# EAGLE library part DRV8353S (library controller)
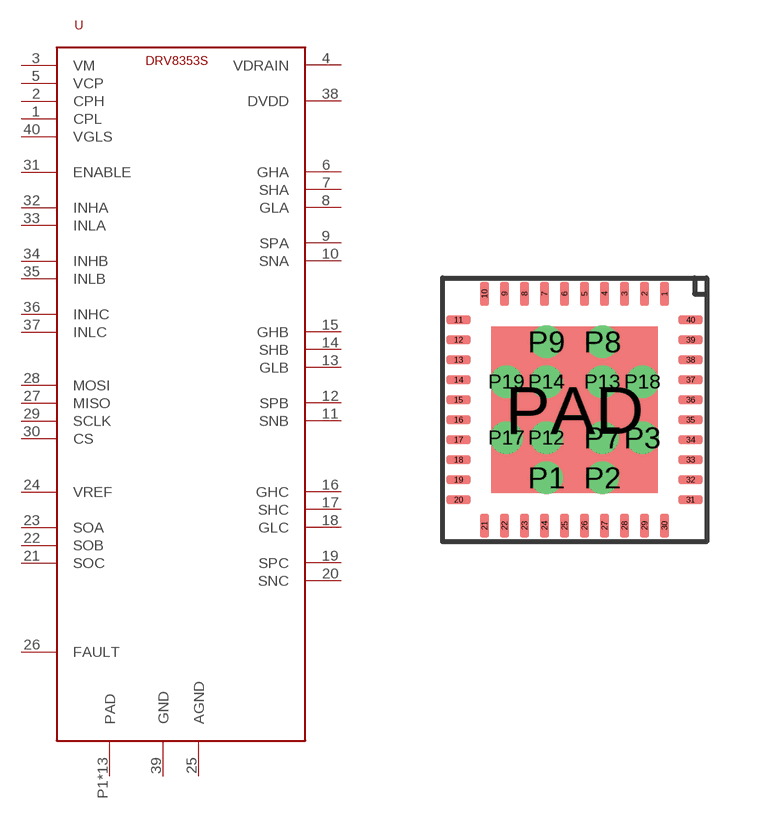
[diagram p12: symbol with the pads of WQFN-40; footprint WQFN-40]

Designator prefix -

## DRV8353S  [WQFN-40]
1  CPL
2  CPH
3  VM
4  VDRAIN
5  VCP
6  GHA
7  SHA
8  GLA
9  SPA
10  SNA
11  SNB
12  SPB
13  GLB
14  SHB
15  GHB
16  GHC
17  SHC
18  GLC
19  SPC
20  SNC
21  SOC
22  SOB
23  SOA
24  VREF
25  AGND
26  FAULT
27  MISO
28  MOSI
29  SCLK
30  CS
31  ENABLE
32  INHA
33  INLA
34  INHB
35  INLB
36  INHC
37  INLC
38  DVDD
39  GND
40  VGLS
P1  PAD
P2  PAD
P3  PAD
P7  PAD
P8  PAD
P9  PAD
P12  PAD
P13  PAD
P14  PAD
P17  PAD
P18  PAD
P19  PAD
PAD  PAD

## Footprint WQFN-40 (pad centres in mm)
smd 0.22 x 0.6: 1 2.25,2.9; 2 1.75,2.9; 3 1.25,2.9; 4 0.75,2.9; 5 0.25,2.9; 6 -0.25,2.9; 7 -0.75,2.9; 8 -1.25,2.9; 9 -1.75,2.9; 10 -2.25,2.9; 21 -2.25,-2.9; 22 -1.75,-2.9; 23 -1.25,-2.9; 24 -0.75,-2.9; 25 -0.25,-2.9; 26 0.25,-2.9; 27 0.75,-2.9; 28 1.25,-2.9; 29 1.75,-2.9; 30 2.25,-2.9
smd 0.6 x 0.22: 11 -2.9,2.25; 12 -2.9,1.75; 13 -2.9,1.25; 14 -2.9,0.75; 15 -2.9,0.25; 16 -2.9,-0.25; 17 -2.9,-0.75; 18 -2.9,-1.25; 19 -2.9,-1.75; 20 -2.9,-2.25; 31 2.9,-2.25; 32 2.9,-1.75; 33 2.9,-1.25; 34 2.9,-0.75; 35 2.9,-0.25; 36 2.9,0.25; 37 2.9,0.75; 38 2.9,1.25; 39 2.9,1.75; 40 2.9,2.25
drill 0.305: P1 -0.7,-1.7; P2 0.7,-1.7; P3 1.7,-0.7; P7 0.7,-0.7; P8 0.7,1.7; P9 -0.7,1.7; P12 -0.7,-0.7; P13 0.7,0.7; P14 -0.7,0.7; P17 -1.7,-0.7; P18 1.7,0.7; P19 -1.7,0.7
smd 4.15 x 4.15: PAD 0,0